# EAGLE library part LN-BP010 (library SM-LED)
10-LED single solor LED bar
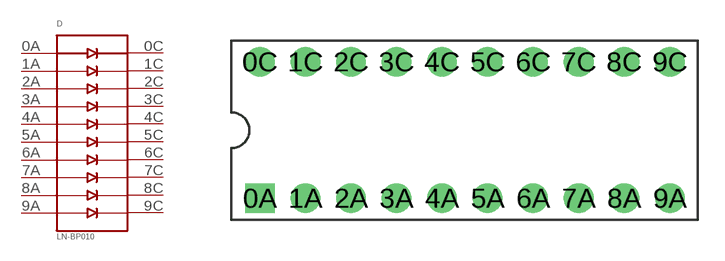
[diagram p1: symbol with the pads of LN-BP010HR; footprint LN-BP010HR]

Designator prefix D

## LN-BP010HR (COLOR: Hi-Red; TME-ID: LN-BP010HR)  [LN-BP010HR]
0A  P$1  in
0C  P$20  out
1A  P$2  in
1C  P$19  out
2A  P$3  in
2C  P$18  out
3A  P$4  in
3C  P$17  out
4A  P$5  in
4C  P$16  out
5A  P$6  in
5C  P$15  out
6A  P$7  in
6C  P$14  out
7A  P$8  in
7C  P$13  out
8A  P$9  in
8C  P$12  out
9A  P$10  in
9C  P$11  out

## Footprint LN-BP010HR (pad centres in mm)
drill 1.1 square: 0A -10.41,-3.79
drill 1.1: 0C -10.41,3.83; 1A -7.87,-3.79; 1C -7.87,3.83; 2A -5.33,-3.79; 2C -5.33,3.83; 3A -2.79,-3.79; 3C -2.79,3.83; 4A -0.25,-3.79; 4C -0.25,3.83; 5A 2.29,-3.79; 5C 2.29,3.83; 6A 4.83,-3.79; 6C 4.83,3.83; 7A 7.37,-3.79; 7C 7.37,3.83; 8A 9.91,-3.79; 8C 9.91,3.83; 9A 12.45,-3.79; 9C 12.45,3.83